# EAGLE library part MC9S12XS64 (library SparkFun-paranoidstudio)
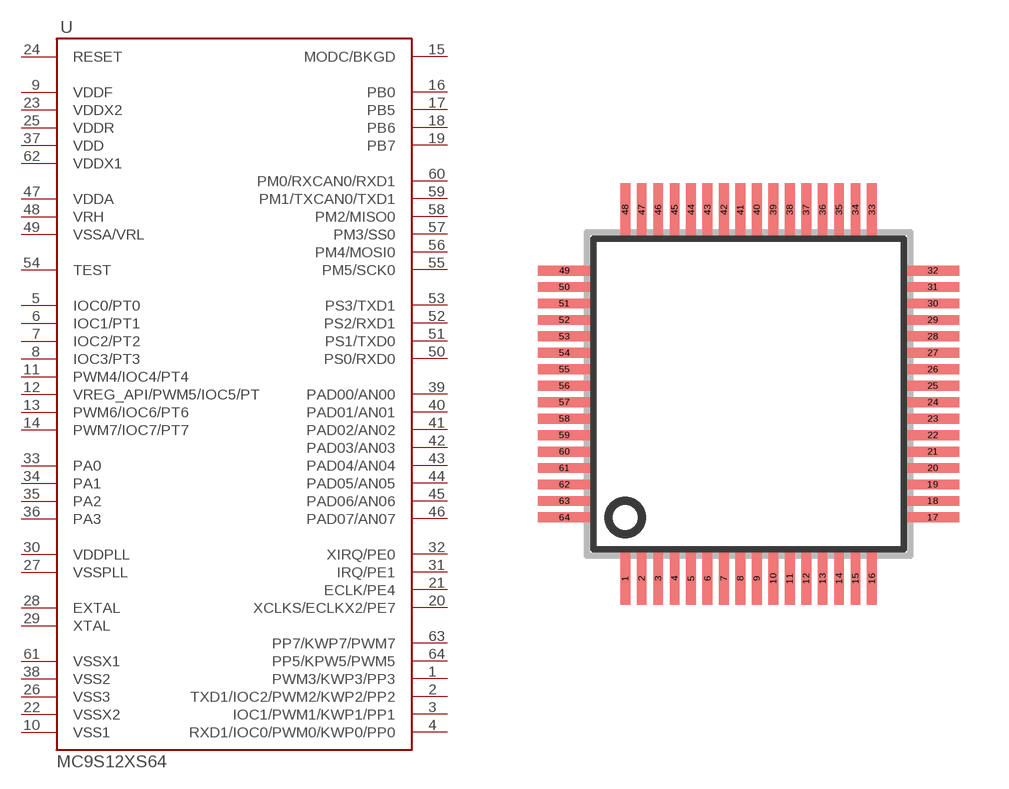
[diagram p232: symbol with the pads of SQFP-S-10X10-64; footprint SQFP-S-10X10-64]

Designator prefix -

## MC9S12XS64  [SQFP-S-10X10-64]
1  PWM3/KWP3/PP3
2  TXD1/IOC2/PWM2/KWP2/PP2
3  IOC1/PWM1/KWP1/PP1
4  RXD1/IOC0/PWM0/KWP0/PP0
5  IOC0/PT0
6  IOC1/PT1
7  IOC2/PT2
8  IOC3/PT3
9  VDDF
10  VSS1
11  PWM4/IOC4/PT4
12  VREG_API/PWM5/IOC5/PT
13  PWM6/IOC6/PT6
14  PWM7/IOC7/PT7
15  MODC/BKGD
16  PB0
17  PB5
18  PB6
19  PB7
20  XCLKS/ECLKX2/PE7
21  ECLK/PE4
22  VSSX2
23  VDDX2
24  RESET
25  VDDR
26  VSS3
27  VSSPLL
28  EXTAL
29  XTAL
30  VDDPLL
31  IRQ/PE1
32  XIRQ/PE0
33  PA0
34  PA1
35  PA2
36  PA3
37  VDD
38  VSS2
39  PAD00/AN00
40  PAD01/AN01
41  PAD02/AN02
42  PAD03/AN03
43  PAD04/AN04
44  PAD05/AN05
45  PAD06/AN06
46  PAD07/AN07
47  VDDA
48  VRH
49  VSSA/VRL
50  PS0/RXD0
51  PS1/TXD0
52  PS2/RXD1
53  PS3/TXD1
54  TEST
55  PM5/SCK0
56  PM4/MOSI0
57  PM3/SS0
58  PM2/MISO0
59  PM1/TXCAN0/TXD1
60  PM0/RXCAN0/RXD1
61  VSSX1
62  VDDX1
63  PP7/KWP7/PWM7
64  PP5/KPW5/PWM5

## Footprint SQFP-S-10X10-64 (pad centres in mm)
QFP64 shrink quad flat pack, square
smd 0.3 x 1.6: 1 -3.75,-5.6; 2 -3.25,-5.6; 3 -2.75,-5.6; 4 -2.25,-5.6; 5 -1.75,-5.6; 6 -1.25,-5.6; 7 -0.75,-5.6; 8 -0.25,-5.6; 9 0.25,-5.6; 10 0.75,-5.6; 11 1.25,-5.6; 12 1.75,-5.6; 13 2.25,-5.6; 14 2.75,-5.6; 15 3.25,-5.6; 16 3.75,-5.6; 33 3.75,5.6; 34 3.25,5.6; 35 2.75,5.6; 36 2.25,5.6; 37 1.75,5.6; 38 1.25,5.6; 39 0.75,5.6; 40 0.25,5.6; 41 -0.25,5.6; 42 -0.75,5.6; 43 -1.25,5.6; 44 -1.75,5.6; 45 -2.25,5.6; 46 -2.75,5.6; 47 -3.25,5.6; 48 -3.75,5.6
smd 1.6 x 0.3: 17 5.6,-3.75; 18 5.6,-3.25; 19 5.6,-2.75; 20 5.6,-2.25; 21 5.6,-1.75; 22 5.6,-1.25; 23 5.6,-0.75; 24 5.6,-0.25; 25 5.6,0.25; 26 5.6,0.75; 27 5.6,1.25; 28 5.6,1.75; 29 5.6,2.25; 30 5.6,2.75; 31 5.6,3.25; 32 5.6,3.75; 49 -5.6,3.75; 50 -5.6,3.25; 51 -5.6,2.75; 52 -5.6,2.25; 53 -5.6,1.75; 54 -5.6,1.25; 55 -5.6,0.75; 56 -5.6,0.25; 57 -5.6,-0.25; 58 -5.6,-0.75; 59 -5.6,-1.25; 60 -5.6,-1.75; 61 -5.6,-2.25; 62 -5.6,-2.75; 63 -5.6,-3.25; 64 -5.6,-3.75